# Altium footprint library 281742-8.PcbLib: 1 footprints
Each footprint in its own frame and in the unit in brackets; x right, y up, seen from the top. Pads: shape width x height; smd on the part's side, far side on the other; paste and mask are expansions set on the pad; w line width, h text height; cw(c..) or ccw(c..) is an arc to the next point about the centre after c.
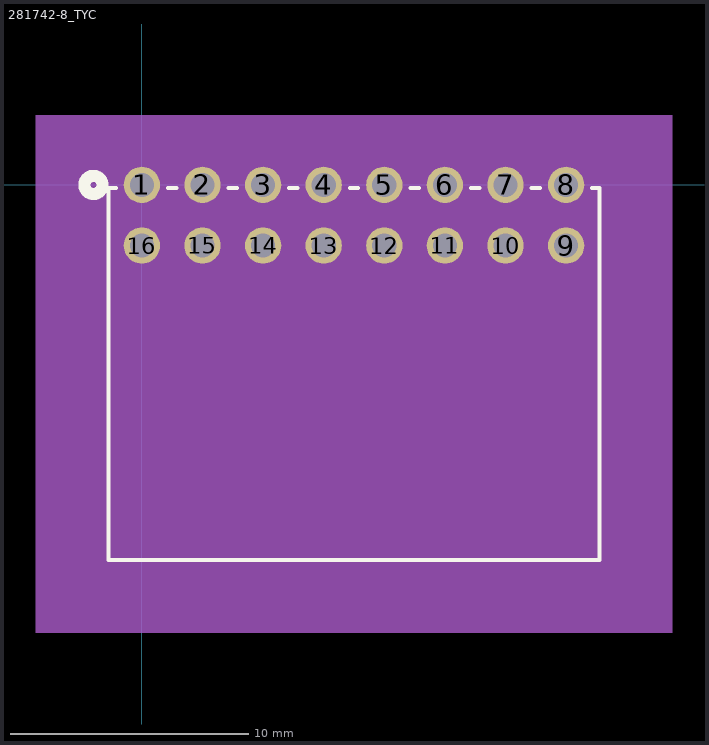
[diagram p0: the footprint, top view; thin cyan lines are the x and y axes]

## 281742-8_TYC [mil]
pads (16):
  round 60 hole 40 mask+0: 1(0,0) 2(100,0) 3(200,0) 4(300,0) 5(400,0) 6(500,0) 7(600,0) 8(700,0) 9(700,-100) 10(600,-100) 11(500,-100) 12(400,-100) 13(300,-100) 14(200,-100) 15(100,-100) 16(0,-100)
Top Overlay:
  circle w20: c-80,0 r15
  lines w6: -42.81,-5 -55,-5 -55,-618.94 755,-618.94 755,-5 742.81,-5 ; 42.81,-5 57.19,-5 ; 142.81,-5 157.19,-5 ; 242.81,-5 257.19,-5 ; 342.81,-5 357.19,-5 ; 442.81,-5 457.19,-5 ; 542.81,-5 557.19,-5 ; 642.81,-5 657.19,-5
Bottom Overlay:
  circle w20: c-80,0 r15
Mechanical 5:
  region: -175,115 875,115 875,-738.94 -175,-738.94
Mechanical 13:
  circle w20: c0,75 r15
  lines w1: -50,-613.94 750,-613.94 750,-10 -50,-10 -50,-613.94
Mechanical 15:
  region: 760,40 -60,40 -60,-623.94 760,-623.94
  lines w6: -60,-623.94 -60,40 760,40 760,-623.94 -60,-623.94
3D body: height 10, standoff 0, extent 0,0 10,10